# EAGLE library part CWF-12 (library gost_con_wf)
Разъем CWF шаг 2.50 mm
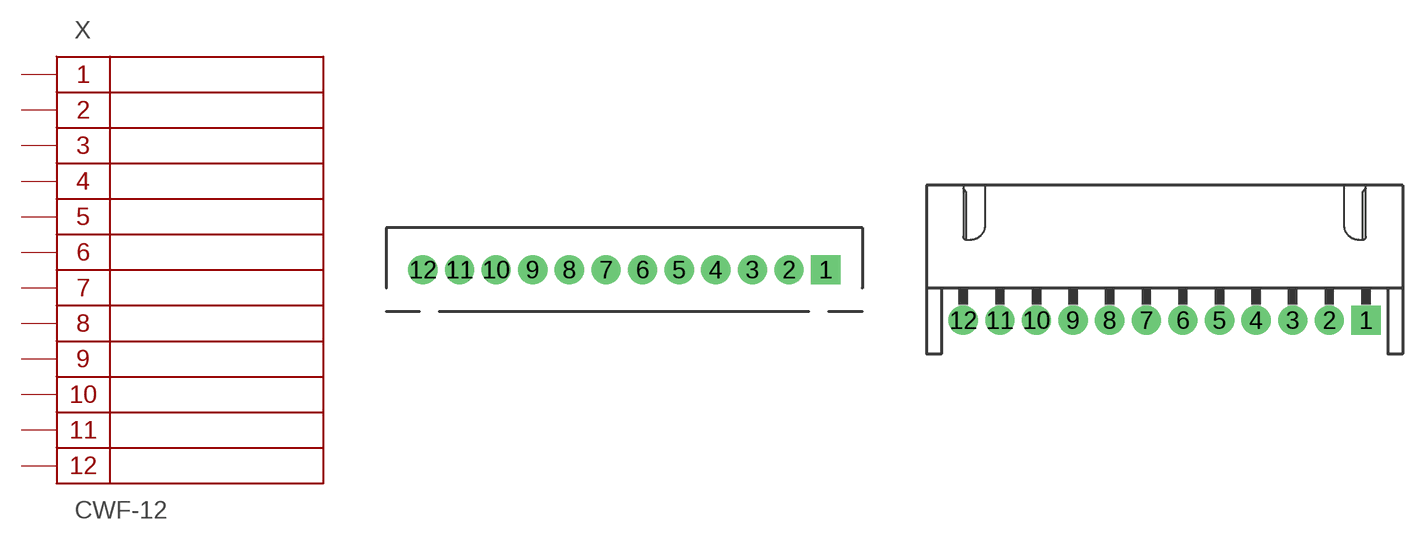
[diagram p13: symbol with the pads of CWF-12; footprints CWF-12, CWF-12R]

Designator prefix X

## CWF-12  [CWF-12]
1  1
2  2
3  3
4  4
5  5
6  6
7  7
8  8
9  9
10  10
11  11
12  12

## CWF-12R  [CWF-12R]
Pads as for CWF-12

## Footprint CWF-12 (pad centres in mm)
Разъем CWF-12 2.50mm
drill 1 pad 2 square: 1 13.75,0
drill 1 pad 2: 2 11.25,0; 3 8.75,0; 4 6.25,0; 5 3.75,0; 6 1.25,0; 7 -1.25,0; 8 -3.75,0; 9 -6.25,0; 10 -8.75,0; 11 -11.25,0; 12 -13.75,0

## Footprint CWF-12R (pad centres in mm)
Разъем CWF-12R 2.50mm h=9.2mm
drill 1 pad 2 square: 1 13.75,0
drill 1 pad 2: 2 11.25,0; 3 8.75,0; 4 6.25,0; 5 3.75,0; 6 1.25,0; 7 -1.25,0; 8 -3.75,0; 9 -6.25,0; 10 -8.75,0; 11 -11.25,0; 12 -13.75,0